# Altium footprint library 2.04-MSOP封装.PcbLib: 7 footprints
Each footprint in its own frame and in the unit in brackets; x right, y up, seen from the top. Pads: shape width x height; smd on the part's side, far side on the other; paste and mask are expansions set on the pad; w line width, h text height; cw(c..) or ccw(c..) is an arc to the next point about the centre after c.
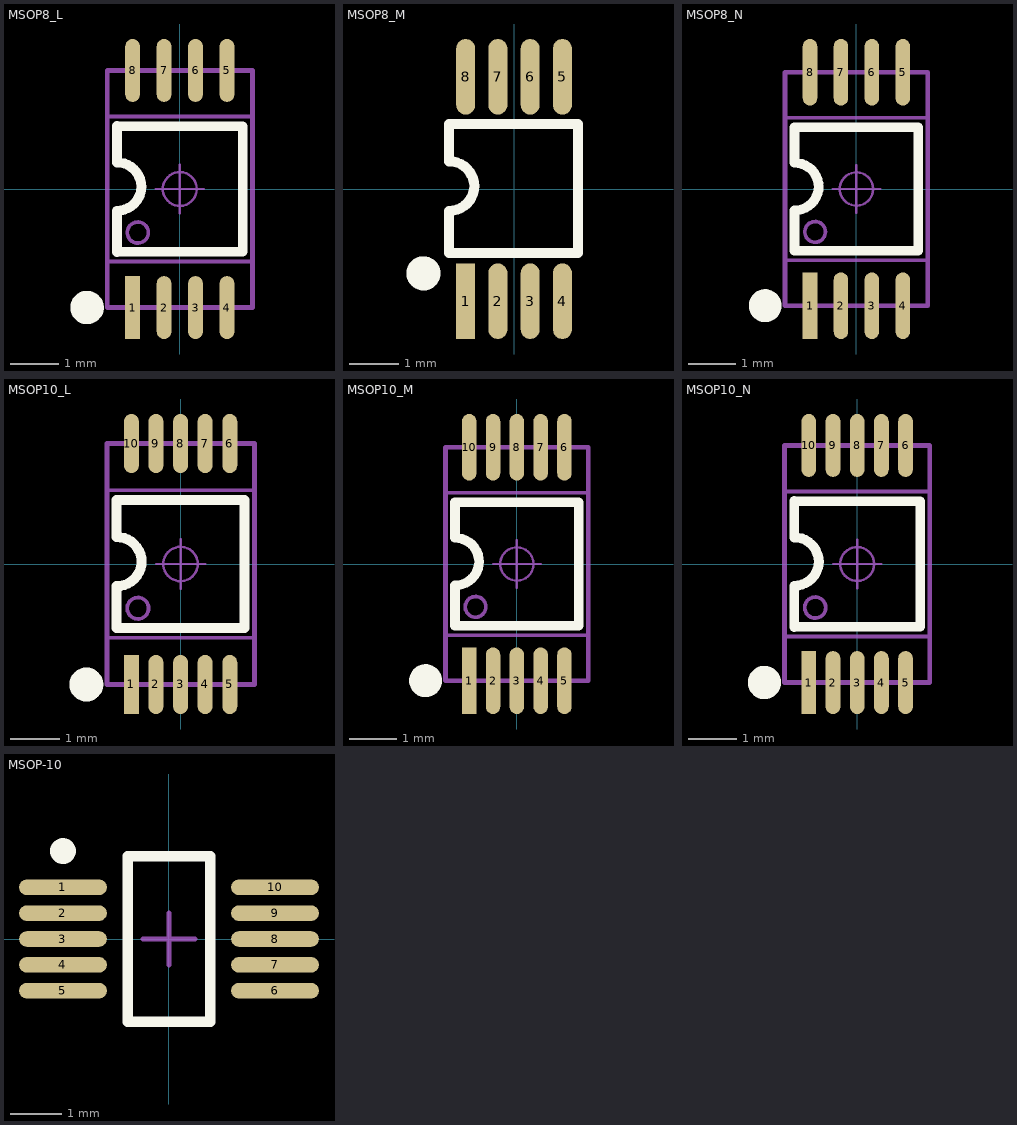
[diagram p0: the footprints below, top view; thin cyan lines are the x and y axes]

## MSOP8_L [mm] "塑封体长3mm，宽3mm，脚距0.65          淘宝ID:黄晶宝石"
pads (8):
  rect 0.305x1.3 smd: 1(-0.975,-2.45)
  oval 0.305x1.3 smd: 2(-0.325,-2.45) 3(0.325,-2.45) 4(0.975,-2.45) 5(0.975,2.45) 6(0.325,2.45) 7(-0.325,2.45) 8(-0.975,2.45)
Top Overlay:
  circle w0.381: c-1.917,-2.45 r0.155
  lines w0.2: -1.3,-1.3 1.3,-1.3 1.3,1.3 -1.3,1.3
  lines w0.203: -1.3,-1.3 -1.3,-0.46 ; -1.3,-0.45 ccw(c-1.3,0.058) -0.792,0.058 ; -1.3,0.55 cw(c-1.3,0.042) -0.792,0.042 ; -1.3,0.556 -1.3,1.3
Mechanical 13:
  circle w0.076: c-0.867,-0.9 r0.217
  lines w0.076: -1.5,-1.5 -1.5,1.5 1.5,1.5 1.5,-1.5 -1.5,-1.5
Mechanical 15:
  circle w0.05: c0,0 r0.35
  lines w0.05: -0.5,0 0.5,0 ; 0,-0.5 0,0.5
  lines w0.1: -1.5,-2.45 1.5,-2.45 1.5,2.45 -1.5,2.45 -1.5,-2.45
3D body "MSOP-8.STEP": height 0.95, standoff 0, extent -1.5,-2.45 1.5,2.45

## MSOP8_M [mil] "塑封体长3mm，宽3mm，脚距0.65          淘宝ID:黄晶宝石"
pads (8):
  rect 15x60 smd: 1(-38.39,-89)
  oval 15x60 smd: 2(-12.8,-89) 3(12.8,-89) 4(38.39,-89) 5(38.39,89) 6(12.8,89) 7(-12.8,89) 8(-38.39,89)
Top Overlay:
  circle w15: c-71.85,-66.93 r6.08
  lines w7.87: -51.5,-50.87 50.87,-50.87 50.87,51.5 -51.5,51.5
  lines w8: -51.5,-50.87 -51.5,-17.8 ; -51.5,-17.4 ccw(c-51.5,2.6) -31.5,2.6 ; -51.5,21.97 cw(c-51.5,1.97) -31.5,1.97 ; -51.5,22.2 -51.5,51.5
3D body "MSOP-8.STEP": height 37.4, standoff 0, extent -59.05,-96.45 59.06,96.47

## MSOP8_N [mm] "塑封体长3mm，宽3mm，脚距0.65     淘宝ID:黄晶宝石"
pads (8):
  rect 0.305x1.4 smd: 1(-0.975,-2.45)
  oval 0.305x1.4 smd: 2(-0.325,-2.45) 3(0.325,-2.45) 4(0.975,-2.45) 5(0.975,2.45) 6(0.325,2.45) 7(-0.325,2.45) 8(-0.975,2.45)
Top Overlay:
  circle w0.381: c-1.917,-2.45 r0.155
  lines w0.2: -1.3,-1.3 1.3,-1.3 1.3,1.3 -1.3,1.3
  lines w0.203: -1.3,-1.3 -1.3,-0.46 ; -1.3,-0.45 ccw(c-1.3,0.058) -0.792,0.058 ; -1.3,0.55 cw(c-1.3,0.042) -0.792,0.042 ; -1.3,0.556 -1.3,1.3
Mechanical 13:
  circle w0.076: c-0.867,-0.9 r0.217
  lines w0.076: -1.5,-1.5 1.5,-1.5 1.5,1.5 -1.5,1.5 -1.5,-1.5
Mechanical 15:
  circle w0.05: c0,0 r0.35
  lines w0.05: -0.5,0 0.5,0 ; 0,-0.5 0,0.5
  lines w0.1: -1.5,-2.45 -1.5,2.45 1.5,2.45 1.5,-2.45 -1.5,-2.45
3D body "MSOP-8.STEP": height 0.95, standoff 0, extent -1.5,-2.45 1.5,2.45

## MSOP10_L [mm] "塑封体长3mm，宽3mm，脚距0.5"
pads (10):
  rect 0.305x1.2 smd: 1(-1,-2.45)
  oval 0.305x1.2 smd: 2(-0.5,-2.45) 3(0,-2.45) 4(0.5,-2.45) 5(1,-2.45) 6(1,2.45) 7(0.5,2.45) 8(0,2.45) 9(-0.5,2.45) 10(-1,2.45)
Top Overlay:
  circle w0.381: c-1.917,-2.45 r0.155
  lines w0.2: -1.3,-1.3 1.3,-1.3 1.3,1.3 -1.3,1.3
  lines w0.203: -1.3,-1.3 -1.3,-0.46 ; -1.3,-0.45 ccw(c-1.3,0.058) -0.792,0.058 ; -1.3,0.55 cw(c-1.3,0.042) -0.792,0.042 ; -1.3,0.556 -1.3,1.3
Mechanical 13:
  circle w0.076: c-0.867,-0.9 r0.217
  lines w0.076: -1.5,-1.5 1.5,-1.5 1.5,1.5 -1.5,1.5 -1.5,-1.5
Mechanical 15:
  circle w0.05: c0,0 r0.35
  lines w0.05: -0.5,0 0.5,0 ; 0,-0.5 0,0.5
  lines w0.1: -1.5,-2.45 -1.5,2.45 1.5,2.45 1.5,-2.45 -1.5,-2.45
3D body "MSOP-10.STEP": height 0.95, standoff 0, extent -1.5,-2.45 1.5,2.45

## MSOP10_M [mm] "塑封体长3mm，宽3mm，脚距0.5mm      淘宝ID:黄晶宝石"
pads (10):
  rect 0.305x1.4 smd: 1(-1,-2.45)
  oval 0.305x1.4 smd: 2(-0.5,-2.45) 3(0,-2.45) 4(0.5,-2.45) 5(1,-2.45) 6(1,2.45) 7(0.5,2.45) 8(0,2.45) 9(-0.5,2.45) 10(-1,2.45)
Top Overlay:
  circle w0.381: c-1.917,-2.45 r0.155
  lines w0.2: -1.3,-1.3 1.3,-1.3 1.3,1.3 -1.3,1.3
  lines w0.203: -1.3,-1.3 -1.3,-0.46 ; -1.3,-0.45 ccw(c-1.3,0.058) -0.792,0.058 ; -1.3,0.55 cw(c-1.3,0.042) -0.792,0.042 ; -1.3,0.556 -1.3,1.3
Mechanical 13:
  circle w0.076: c-0.867,-0.9 r0.217
  lines w0.076: -1.5,-1.5 1.5,-1.5 1.5,1.5 -1.5,1.5 -1.5,-1.5
Mechanical 15:
  circle w0.05: c0,0 r0.35
  lines w0.05: -0.5,0 0.5,0 ; 0,-0.5 0,0.5
  lines w0.1: -1.5,-2.45 -1.5,2.45 1.5,2.45 1.5,-2.45 -1.5,-2.45
3D body "MSOP-10.STEP": height 0.95, standoff 0, extent -1.5,-2.45 1.5,2.45

## MSOP10_N [mm] "塑封体长3mm，宽3mm，脚距0.5MM   淘宝ID:黄晶宝石"
pads (10):
  rect 0.305x1.3 smd: 1(-1,-2.45)
  oval 0.305x1.3 smd: 2(-0.5,-2.45) 3(0,-2.45) 4(0.5,-2.45) 5(1,-2.45) 6(1,2.45) 7(0.5,2.45) 8(0,2.45) 9(-0.5,2.45) 10(-1,2.45)
Top Overlay:
  circle w0.381: c-1.917,-2.45 r0.155
  lines w0.2: -1.3,-1.3 1.3,-1.3 1.3,1.3 -1.3,1.3
  lines w0.203: -1.3,-1.3 -1.3,-0.46 ; -1.3,-0.45 ccw(c-1.3,0.058) -0.792,0.058 ; -1.3,0.55 cw(c-1.3,0.042) -0.792,0.042 ; -1.3,0.556 -1.3,1.3
Mechanical 13:
  circle w0.076: c-0.867,-0.9 r0.217
  lines w0.076: -1.5,-1.5 -1.5,1.5 1.5,1.5 1.5,-1.5 -1.5,-1.5
Mechanical 15:
  circle w0.05: c0,0 r0.35
  lines w0.05: -0.5,0 0.5,0 ; 0,-0.5 0,0.5
  lines w0.1: -1.5,-2.45 1.5,-2.45 1.5,2.45 -1.5,2.45 -1.5,-2.45
3D body "MSOP-10.STEP": height 0.95, standoff 0, extent -1.5,-2.45 1.5,2.45

## MSOP-10 [mm] "长3mm，宽3mm，脚距0.5 封装库来自淘宝ID:黄晶宝石"
height 1.1
pads (10):
  oval 1.7x0.3 smd: 1(-2.05,1) 2(-2.05,0.5) 3(-2.05,0) 4(-2.05,-0.5) 5(-2.05,-1) 6(2.05,-1) 7(2.05,-0.5) 8(2.05,0) 9(2.05,0.5) 10(2.05,1)
Top Overlay:
  circle w0.25: c-2.05,1.7 r0.125
  lines w0.2: -0.8,-1.6 0.8,-1.6 0.8,1.6 -0.8,1.6 -0.8,-1.6
Mechanical 15:
  lines w0.1: -0.5,0 0.5,0 ; 0,-0.5 0,0.5
3D body "MSOP-10.STEP": height 0.95, standoff 0, extent -2.45,-1.5 2.45,1.5